# EAGLE library part MACPLUS (library 396_conn)
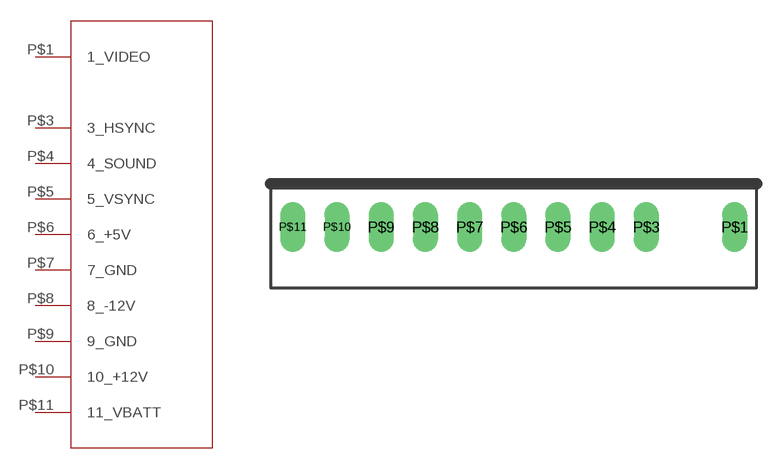
[diagram p5: symbol with the pads of 396_10P; footprint 396_10P]

Designator prefix -

## MACPLUS  [396_10P]
P$1  1_VIDEO
P$3  3_HSYNC
P$4  4_SOUND
P$5  5_VSYNC
P$6  6_+5V
P$7  7_GND
P$8  8_-12V
P$9  9_GND
P$10  10_+12V
P$11  11_VBATT

## Footprint 396_10P (pad centres in mm)
drill 1.5 long: P$1 19.8,0; P$3 11.88,0; P$4 7.92,0; P$5 3.96,0; P$6 0,0; P$7 -3.96,0; P$8 -7.92,0; P$9 -11.88,0; P$10 -15.84,0; P$11 -19.8,0